# Altium footprint library SOT89150P410X160-3N.PcbLib: 1 footprints
Each footprint in its own frame and in the unit in brackets; x right, y up, seen from the top. Pads: shape width x height; smd on the part's side, far side on the other; paste and mask are expansions set on the pad; w line width, h text height; cw(c..) or ccw(c..) is an arc to the next point about the centre after c.
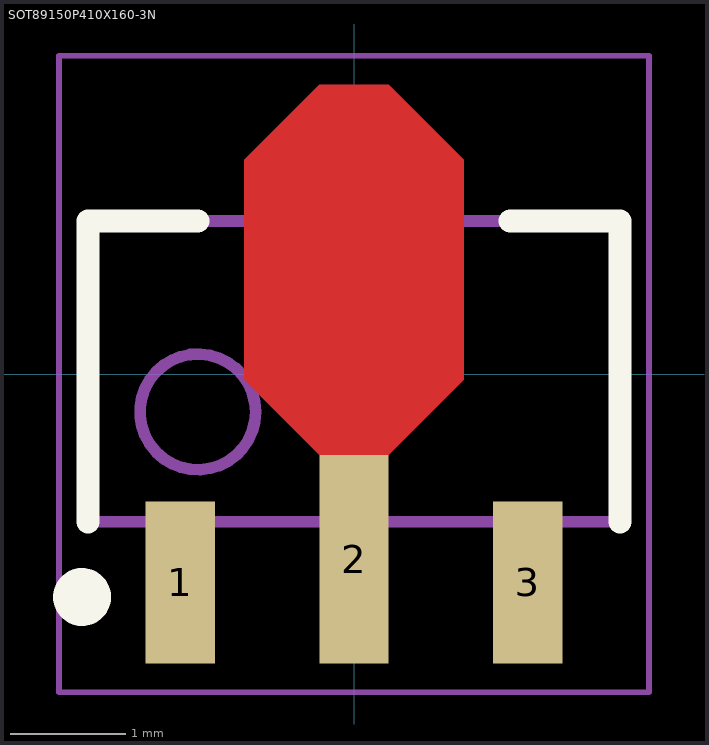
[diagram p0: the footprint, top view; thin cyan lines are the x and y axes]

## SOT89150P410X160-3N [mm] "SOT89, 3-Leads, Body 4,50x2,45mm, Pitch 1,50mm, Lead Span 4,1mm, IPC Medium Density"
height 1.6
pads (3):
  rect 0.6x1.4 smd: 1(-1.5,-1.8) 3(1.5,-1.8)
  rect 0.6x1.8 smd: 2(0,-1.6)
Top Layer:
  region: -0.3,-0.7 -0.95,-0.05 -0.95,1.85 -0.3,2.5 0.3,2.5 0.95,1.85 0.95,-0.05 0.3,-0.7
Top Overlay:
  circle w0.25: c-2.35,-1.927 r0.125
  lines w0.2: -2.3,-1.278 -2.3,1.322 -1.35,1.322 ; 1.35,1.322 2.3,1.322 2.3,-1.278
Top Assembly:
  circle w0.1: c-1.35,-0.327 r0.5
  lines w0.1: -2.3,-1.278 -2.3,1.322 2.3,1.322 2.3,-1.278 -2.3,-1.278
Mechanical 15:
  lines w0.05: -2.55,-2.75 -2.55,2.75 2.55,2.75 2.55,-2.75 -2.55,-2.75
  lines w0.1: -0.5,0.022 0.5,0.022 ; 0,-0.477 0,0.523
3D body "SOT89-150P410X160-3N.step": height 1.6, standoff 0, extent -2.3,-2.2 2.3,1.85